# EAGLE library part MCP_41X1_DIGI_POT (library skinnerbox_library)
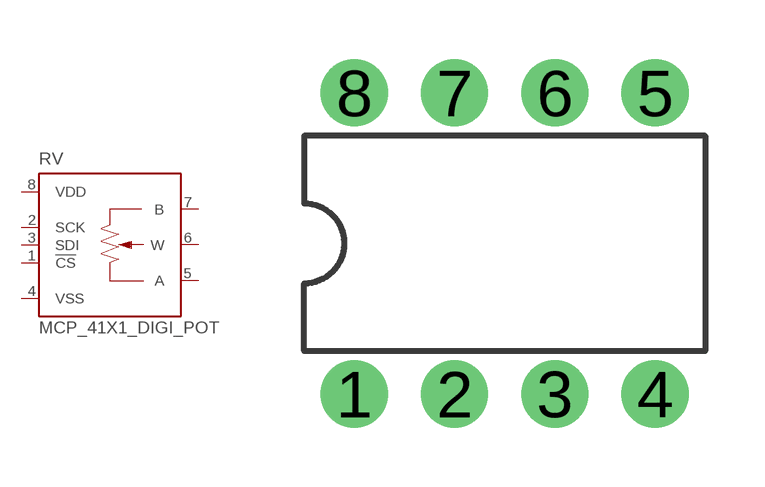
[diagram p5: symbol with the pads of DIL08; footprint DIL08]

Designator prefix RV

## MCP_41X1_DIGI_POT  [DIL08]
1  !CS  in
2  SCK  in
3  SDI  in
4  VSS  pwr
5  A  pas
6  W  pas
7  B  pas
8  VDD  pwr

## Footprint DIL08 (pad centres in mm)
Dual In Line Package
drill 0.9 pad 1.7: 1 -3.81,-3.81; 2 -1.27,-3.81; 3 1.27,-3.81; 4 3.81,-3.81; 5 3.81,3.81; 6 1.27,3.81; 7 -1.27,3.81; 8 -3.81,3.81